# Altium schematic symbol library Potentiometer.SchLib: 1 symbol
Pins are listed as number, name and electrical type; pins without a type are passive.

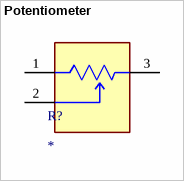
[diagram p0: symbol Potentiometer]

## Potentiometer
designator R?
footprint Potentiometer
pins: 1, 2, 3